# Altium schematic symbol library USB.SchLib: 6 symbols
Pins are listed as number, name and electrical type; pins without a type are passive.

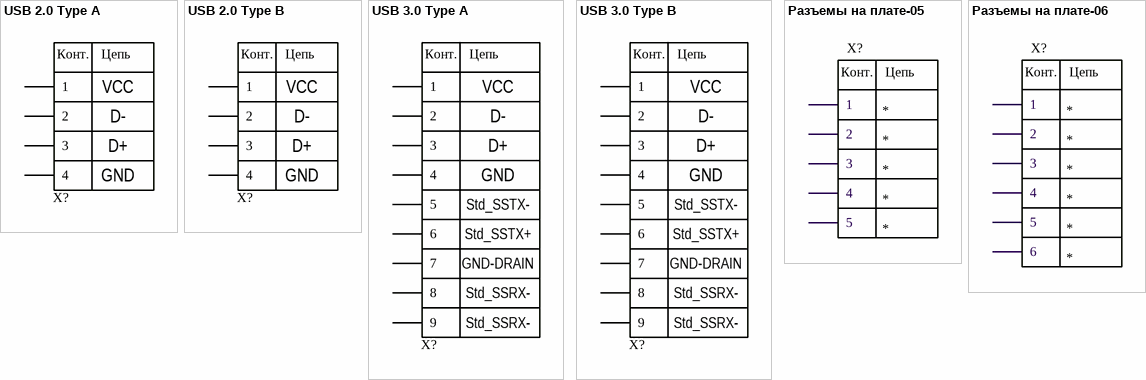
[diagram p0: symbols USB 2.0 Type A to Разъемы на плате-06]

## USB 2.0 Type A
designator X?  (value not drawn)
USB-A (USB TYPE-A) USB 2.0 Receptacle Connector 4 Position Through Hole, Right Angle; Manufacture: Würth Elektronik; Model: USB 2.0 Type A (61400416021); Name: Разъем; Case: USB 2.0 Type A; HelpURL: https://www.digikey.com/en/products/detail/w%C3%BCrth-elektronik/61400416021/2060602; Value: USB 2.0 Type A; Конт.1: *; Конт.2: *; Конт.4: *; Конт.3: *
footprint USB 2.0 Type A
pins: 1 "Вход", 2 "Вход", 3 "Вход", 4 "Вход"
text: Конт.; Цепь; VCC; D-; D+; GND

## USB 2.0 Type B
designator X?  (value not drawn)
USB-B (USB TYPE-B) USB 2.0 Receptacle Connector 4 Position Through Hole, Right Angle; Manufacture: Würth Elektronik; Model: USB 2.0 Type B (61400416121); Name: Разъем; Case: USB 2.0 Type B; HelpURL: https://www.digikey.com/en/products/detail/w%C3%BCrth-elektronik/61400416121/2060604; Value: USB 2.0 Type B; Конт.1: *; Конт.2: *; Конт.4: *; Конт.3: *
footprint USB 2.0 Type B
pins: 1 "Вход", 2 "Вход", 3 "Вход", 4 "Вход"
text: Конт.; Цепь; VCC; D-; D+; GND

## USB 3.0 Type A
designator X?  (value not drawn)
USB-A (USB TYPE-A) USB 3.2 Gen 1 (USB 3.1 Gen 1, Superspeed (USB 3.0)) Receptacle Connector 9 Position Through Hole, Right Angle; Manufacture: Würth Elektronik; Model: USB 3.0 Type A (692121030100); Name: Разъем; Case: USB 3.0 Type B; HelpURL: https://www.digikey.com/en/products/detail/w%C3%BCrth-elektronik/692121030100/2627262; Value: USB 3.0 Type A; Конт.8: *; Конт.7: *; Конт.6: *; Конт.5: *; Конт.4: *; Конт.3: *; Конт.2: *; Конт.1: *
footprint USB 3.0 Type A
pins: 1 "Вход", 2 "Вход", 3 "Вход", 4 "Вход", 5 "Вход", 6 "Вход", 7 "Вход", 8 "Вход", 9 "Вход"
text: Конт.; Цепь; VCC; D-; D+; GND; Std_SSTX-; Std_SSTX+; GND-DRAIN; Std_SSRX-

## USB 3.0 Type B
designator X?  (value not drawn)
USB-B (USB TYPE-B) USB 3.2 Gen 1 (USB 3.1 Gen 1, Superspeed (USB 3.0)) Receptacle Connector 9 Position Through Hole, Right Angle; Manufacture: CNC Tech; Model: USB 3.0 Type B (1003-024-02000); Name: Разъем; Case: USB 3.0 Type B; HelpURL: https://www.digikey.com/en/products/detail/cnc-tech/1003-024-02000/3466944; Value: USB 3.0 Type B; Конт.8: *; Конт.7: *; Конт.6: *; Конт.5: *; Конт.4: *; Конт.3: *; Конт.2: *; Конт.1: *
footprint USB 3.0 Type B
pins: 1 "Вход", 2 "Вход", 3 "Вход", 4 "Вход", 5 "Вход", 6 "Вход", 7 "Вход", 8 "Вход", 9 "Вход"
text: Конт.; Цепь; VCC; D-; D+; GND; Std_SSTX-; Std_SSTX+; GND-DRAIN; Std_SSRX-

## Разъемы на плате-05
designator X?
Name: Разъем; Value: *; Конт.1: *; Конт.2: *; Конт.3: *; Конт.4: *; Конт.5: *
pins: 1 "Вход", 2 "Вход", 3 "Вход", 4 "Вход", 5 "Вход"
text: Конт.; Цепь

## Разъемы на плате-06
designator X?
Name: Разъем; Value: *; Конт.1: *; Конт.2: *; Конт.3: *; Конт.4: *; Конт.5: *; Конт.6: *
pins: 1 "Вход", 2 "Вход", 3 "Вход", 4 "Вход", 5 "Вход", 6 "Вход"
text: Конт.; Цепь